# Altium footprint library X-Bus.PcbLib: 13 footprints
Each footprint in its own frame and in the unit in brackets; x right, y up, seen from the top. Pads: shape width x height; smd on the part's side, far side on the other; paste and mask are expansions set on the pad; w line width, h text height; cw(c..) or ccw(c..) is an arc to the next point about the centre after c.
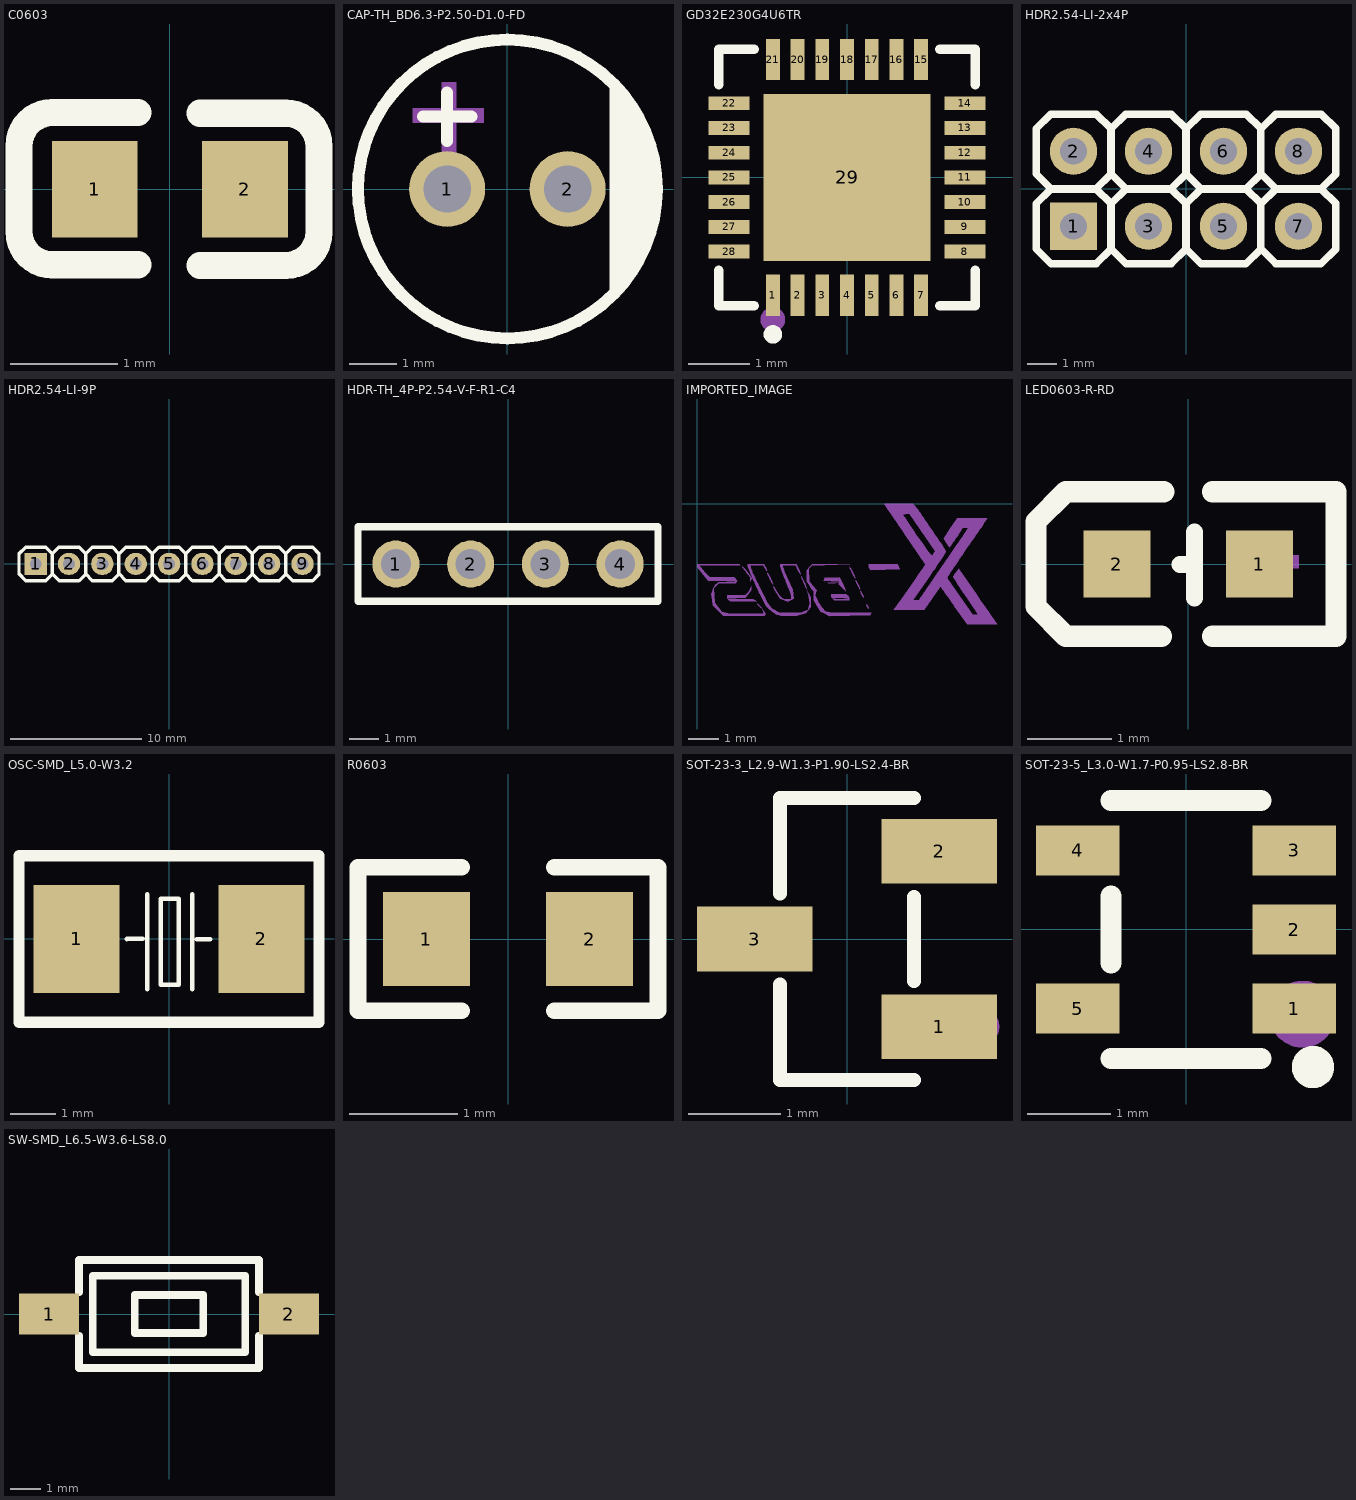
[diagram p0: the footprints below, top view; thin cyan lines are the x and y axes]

## C0603 [mm]
pads (2):
  rect 0.8x0.9 smd: 1(-0.7,0) 2(0.7,0)
Top Overlay:
  lines w0.254: -0.296,-0.704 -1.096,-0.704 cw(c-1.096,-0.394) -1.406,-0.394 -1.405,0.406 cw(c-1.096,0.406) -1.096,0.715 -0.296,0.715 ; 0.28,-0.71 1.08,-0.71 ccw(c1.08,-0.4) 1.39,-0.4 1.39,0.4 ccw(c1.08,0.4) 1.08,0.71 0.28,0.71

## CAP-TH_BD6.3-P2.50-D1.0-FD [mm]
pads (2):
  round 1.6 hole 1: 1(-1.27,0) 2(1.27,0)
Top Overlay:
  circle w0.254: c0,0 r3.15
  region: 2.159,2.286 2.319,2.142 2.595,1.812 2.822,1.447 2.997,1.054 3.115,0.641 3.175,0.215 3.175,-0.215 3.115,-0.641 2.997,-1.054 2.822,-1.447 2.595,-1.812 2.319,-2.142 2.159,-2.286
  lines w0.254: -1.778,1.524 -0.762,1.524 ; -1.27,1.016 -1.27,2.032
Mechanical 15:
  region: -1.381,0.752 -1.381,2.252 -1.081,2.252 -1.081,0.752
  region: -2,1.7 -0.5,1.7 -0.5,1.4 -2,1.4

## GD32E230G4U6TR [mm]
pads (29):
  rect 0.224x0.665 smd: 1(-1.2,-1.907) 2(-0.8,-1.907) 3(-0.4,-1.907) 4(0,-1.907) 5(0.4,-1.907) 6(0.8,-1.907) 7(1.2,-1.907) 15(1.2,1.907) 16(0.8,1.907) 17(0.4,1.907) 18(0,1.907) 19(-0.4,1.907) 20(-0.8,1.907) 21(-1.2,1.907)
  rect 0.665x0.224 smd: 8(1.907,-1.2) 9(1.907,-0.8) 10(1.907,-0.4) 11(1.907,0) 12(1.907,0.4) 13(1.907,0.8) 14(1.907,1.2) 22(-1.907,1.2) 23(-1.907,0.8) 24(-1.907,0.4) 25(-1.907,0) 26(-1.907,-0.4) 27(-1.907,-0.8) 28(-1.907,-1.2)
  rect 2.7x2.7 smd: 29(0,0)
Top Overlay:
  circle w0.15: c-1.2,-2.54 r0.075
  lines w0.152: -2.076,-1.503 -2.076,-2.076 -1.503,-2.076 ; -2.076,1.503 -2.076,2.076 -1.503,2.076 ; 1.503,-2.076 2.076,-2.076 2.076,-1.503 ; 1.503,2.076 2.076,2.076 2.076,1.503
Mechanical 15:
  circle w0.2: c-1.2,-2.3 r0.1

## HDR2.54-LI-2x4P [mm] "双排排针，4x2脚"
pads (8):
  rect 1.6x1.6 hole 0.9: 1(-3.81,-1.27)
  round 1.6 hole 0.9: 2(-3.81,1.27) 3(-1.27,-1.27) 4(-1.27,1.27) 5(1.27,-1.27) 6(1.27,1.27) 7(3.81,-1.27) 8(3.81,1.27)
Top Overlay:
  lines w0.254: 5.08,-2.032 5.08,-0.508 ; 5.08,0.508 5.08,2.032 ; -2.54,-2.032 -2.54,-0.508 ; -2.54,-2.032 -2.032,-2.54 -0.508,-2.54 -0.014,-2.046 -0.014,-0.494 -0.496,-0.012 -2.044,-0.012 -2.54,-0.508 ; -2.54,-2.032 -2.54,-0.508 ; -2.54,0.508 -2.032,0 -0.508,0 -0.014,0.494 -0.014,2.046 -0.496,2.528 -2.044,2.528 -2.54,2.032 ; -2.54,0.508 -2.54,2.032 ; -2.54,0.508 -2.54,2.032 ; 0,-2.032 0,-0.508 ; 0,-2.032 0.508,-2.54 2.032,-2.54 2.526,-2.046 2.526,-0.494 2.044,-0.012 0.496,-0.012 0,-0.508 ; 0,-2.032 0,-0.508 ; 0,0.508 0.508,0 2.032,0 2.526,0.494 2.526,2.046 2.044,2.528 0.496,2.528 0,2.032 ; 0,0.508 0,2.032 ; 0,0.508 0,2.032 ; 2.54,-2.032 2.54,-0.508 ; 2.54,-2.032 3.048,-2.54 4.572,-2.54 5.066,-2.046 5.066,-0.494 4.584,-0.012 3.036,-0.012 2.54,-0.508 ; 2.54,-2.032 2.54,-0.508 ; 2.54,0.508 3.048,0 4.572,0 5.066,0.494 5.066,2.046 4.584,2.528 3.036,2.528 2.54,2.032 ; 2.54,0.508 2.54,2.032 ; 2.54,0.508 2.54,2.032 ; -5.08,-2.032 -4.572,-2.54 -3.048,-2.54 -2.554,-2.046 -2.554,-0.494 -3.036,-0.012 -4.584,-0.012 -5.08,-0.508 -5.08,-2.032 ; -5.08,0.508 -4.572,0 -3.048,0 -2.554,0.494 -2.554,2.046 -3.036,2.528 -4.584,2.528 -5.08,2.032 -5.08,0.508
3D body "HDR2.54-1P_M.STEP": height 8.5, standoff -3, extent -5.08,0 -2.54,2.54
3D body "HDR2.54-1P_M.STEP": height 8.5, standoff -3, extent -2.54,0 0,2.54
3D body "HDR2.54-1P_M.STEP": height 8.5, standoff -3, extent 0,0 2.54,2.54
3D body "HDR2.54-1P_M.STEP": height 8.5, standoff -3, extent 2.54,0 5.08,2.54
3D body "HDR2.54-1P_M.STEP": height 8.5, standoff -3, extent 2.54,-2.54 5.08,0
3D body "HDR2.54-1P_M.STEP": height 8.5, standoff -3, extent 0,-2.54 2.54,0
3D body "HDR2.54-1P_M.STEP": height 8.5, standoff -3, extent -2.54,-2.54 0,0
3D body "HDR2.54-1P_M.STEP": height 8.5, standoff -3, extent -5.08,-2.54 -2.54,0

## HDR2.54-LI-9P [mm] "排针，9脚"
pads (9):
  rect 1.7x1.7 hole 0.9: 1(-10.16,0)
  round 1.7 hole 0.9: 2(-7.62,0) 3(-5.08,0) 4(-2.54,0) 5(0,0) 6(2.54,0) 7(5.08,0) 8(7.62,0) 9(10.16,0)
Top Overlay:
  lines w0.254: -11.43,-0.762 -11.43,0.762 -10.934,1.258 -9.386,1.258 -8.904,0.776 -8.904,-0.776 -9.398,-1.27 -10.922,-1.27 -11.43,-0.762 ; -8.89,-0.762 -8.382,-1.27 -6.858,-1.27 -6.364,-0.776 -6.364,0.776 -6.846,1.258 -8.394,1.258 -8.89,0.762 -8.89,-0.762 ; -6.35,-0.762 -5.842,-1.27 -4.318,-1.27 -3.824,-0.776 -3.824,0.776 -4.306,1.258 -5.854,1.258 -6.35,0.762 -6.35,-0.762 ; -3.81,-0.762 -3.302,-1.27 -1.778,-1.27 -1.284,-0.776 -1.284,0.776 -1.766,1.258 -3.314,1.258 -3.81,0.762 -3.81,-0.762 ; -1.27,-0.762 -1.27,0.762 -0.774,1.258 0.774,1.258 1.256,0.776 1.256,-0.776 0.762,-1.27 -0.762,-1.27 -1.27,-0.762 ; 1.27,-0.762 1.27,0.762 1.766,1.258 3.314,1.258 3.796,0.776 3.796,-0.776 3.302,-1.27 1.778,-1.27 1.27,-0.762 ; 3.81,-0.762 3.81,0.762 4.306,1.258 5.854,1.258 6.336,0.776 6.336,-0.776 5.842,-1.27 4.318,-1.27 3.81,-0.762 ; 6.35,-0.762 6.35,0.762 6.846,1.258 8.394,1.258 8.876,0.776 8.876,-0.776 8.382,-1.27 6.858,-1.27 6.35,-0.762 ; 8.89,-0.762 8.89,0.762 9.386,1.258 10.934,1.258 11.416,0.776 11.416,-0.776 10.922,-1.27 9.398,-1.27 8.89,-0.762
3D body "HDR2.54-1P.STEP": height 2.54, standoff -8.96, extent -11.43,-1.27 -8.89,1.27
3D body "HDR2.54-1P.STEP": height 2.54, standoff -8.96, extent -8.89,-1.27 -6.35,1.27
3D body "HDR2.54-1P.STEP": height 2.54, standoff -8.96, extent -6.35,-1.27 -3.81,1.27
3D body "HDR2.54-1P.STEP": height 2.54, standoff -8.96, extent -3.81,-1.27 -1.27,1.27
3D body "HDR2.54-1P.STEP": height 2.54, standoff -8.96, extent -1.27,-1.27 1.27,1.27
3D body "HDR2.54-1P.STEP": height 2.54, standoff -8.96, extent 1.27,-1.27 3.81,1.27
3D body "HDR2.54-1P.STEP": height 2.54, standoff -8.96, extent 3.81,-1.27 6.35,1.27
3D body "HDR2.54-1P.STEP": height 2.54, standoff -8.96, extent 6.35,-1.27 8.89,1.27
3D body "HDR2.54-1P.STEP": height 2.54, standoff -8.96, extent 8.89,-1.27 11.43,1.27

## HDR-TH_4P-P2.54-V-F-R1-C4 [mm]
pads (4):
  round 1.6 hole 1.02: 1(-3.81,0) 2(-1.27,0) 3(1.27,0) 4(3.81,0)
Top Overlay:
  lines w0.254: -5.1,-1.27 -5.1,1.27 5.1,1.27 5.1,-1.27 -5.1,-1.27

## IMPORTED_IMAGE [mm]
Bottom Overlay:
  drawing of 17 lines, arcs and shapes, not listed

## LED0603-R-RD [mm]
pads (2):
  rect 0.8x0.8 smd: 1(0.851,0) 2(-0.851,0)
Top Overlay:
  lines w0.203: -0.099,-0.008 0.076,-0.008 ; 0.076,-0.406 0.076,0.381
  lines w0.254: -0.318,-0.864 -1.46,-0.864 -1.816,-0.508 -1.816,0.508 -1.46,0.864 -0.292,0.864 ; 0.292,-0.864 1.765,-0.864 1.765,0.864 0.292,0.864
Mechanical 15:
  region: -1.193,0.05 -0.533,0.05 -0.533,-0.103 -1.193,-0.103
  region: 0.936,-0.275 0.936,0.385 1.088,0.385 1.088,-0.275
  region: 0.66,0.102 1.321,0.102 1.321,-0.051 0.66,-0.051

## OSC-SMD_L5.0-W3.2 [mm]
pads (2):
  rect 1.9x2.4 smd: 1(-2.05,0) 2(2.05,0)
Top Overlay:
  lines w0.1: -0.94,0 -0.584,0 ; -0.483,-1.109 -0.483,0.991 ; 0.517,-1.109 0.517,0.991 ; 0.617,-0.009 0.917,-0.009 ; -0.183,-1.009 0.217,-1.009 0.217,0.89 -0.183,0.891 -0.183,-1.009
  lines w0.254: -3.325,-1.85 -3.325,-0.7 -3.325,0.7 -3.325,1.85 3.325,1.85 3.325,0.7 3.325,-0.7 3.325,-1.85 -3.325,-1.85

## R0603 [mm]
pads (2):
  rect 0.806x0.864 smd: 1(-0.753,0) 2(0.753,0)
Top Overlay:
  lines w0.152: -0.426,-0.661 -1.385,-0.661 -1.385,0.661 -0.426,0.661 ; 0.426,-0.661 1.385,-0.661 1.385,0.661 0.426,0.661
Top Paste:
  region: -0.355,0.4 -0.355,0.172 -0.735,0.172 -0.735,-0.158 -0.355,-0.158 -0.355,-0.4 -0.405,-0.45 -1.195,-0.45 -1.245,-0.4 -1.245,0.4 -1.195,0.45 -0.405,0.45
  region: 1.195,0.45 0.395,0.45 0.345,0.4 0.345,0.172 0.715,0.172 0.715,-0.158 0.345,-0.158 0.345,-0.4 0.395,-0.45 1.195,-0.45 1.245,-0.4 1.245,0.4

## SOT-23-3_L2.9-W1.3-P1.90-LS2.4-BR [mm]
pads (3):
  rect 1.25x0.7 smd: 1(1,-0.95) 2(1,0.95) 3(-1,0)
Top Overlay:
  lines w0.152: -0.726,-0.495 -0.726,-1.526 0.726,-1.526 ; -0.726,0.495 -0.726,1.526 0.726,1.526 ; 0.726,-0.455 0.726,0.455
Mechanical 15:
  circle w0.2: c1.45,-0.95 r0.1

## SOT-23-5_L3.0-W1.7-P0.95-LS2.8-BR [mm]
pads (5):
  rect 1x0.6 smd: 1(1.3,-0.95) 2(1.3,0) 3(1.3,0.95) 4(-1.3,0.95) 5(-1.3,-0.95)
Top Overlay:
  circle w0.254: c1.524,-1.651 r0.127
  lines w0.254: -0.9,-1.55 0.9,-1.55 ; -0.9,-0.4 -0.9,0.4 ; -0.9,1.55 0.9,1.55
Mechanical 15:
  circle w0.4: c1.397,-1.016 r0.2

## SW-SMD_L6.5-W3.6-LS8.0 [mm]
pads (2):
  rect 2x1.38 smd: 1(-4,0) 2(4,0)
Top Overlay:
  lines w0.254: -3,-0.731 -3,-1.8 3,-1.8 3,-0.731 ; -3,0.731 -3,1.8 3,1.8 3,0.731 ; -2.54,-1.27 -2.54,1.27 2.54,1.27 2.54,-1.27 -2.54,-1.27 ; -1.143,-0.635 -1.143,0.635 1.143,0.635 1.143,-0.635 -1.143,-0.635